# Altium footprint library sdc_prech_pcblib.PcbLib: 13 footprints
Each footprint in its own frame and in the unit in brackets; x right, y up, seen from the top. Pads: shape width x height; smd on the part's side, far side on the other; paste and mask are expansions set on the pad; w line width, h text height; cw(c..) or ccw(c..) is an arc to the next point about the centre after c.
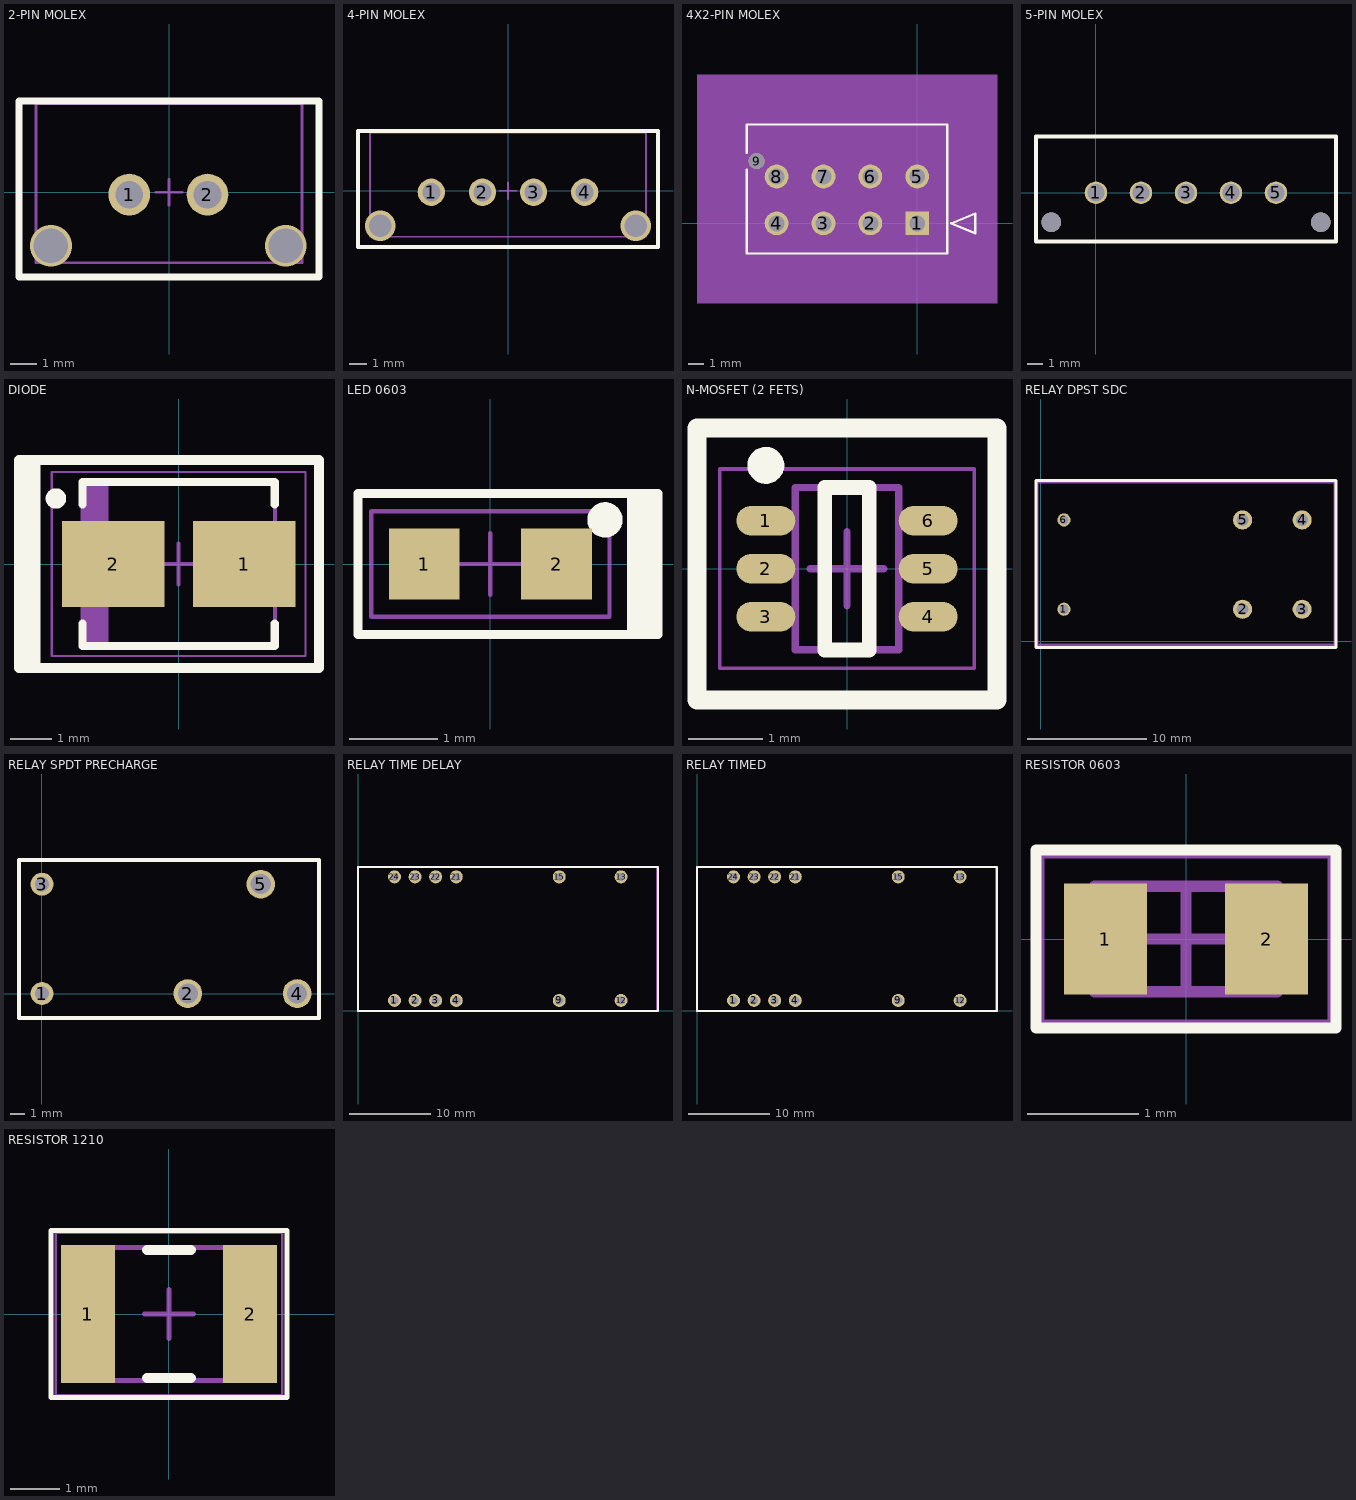
[diagram p0: the footprints below, top view; thin cyan lines are the x and y axes]

## 2-PIN MOLEX [mm]
pads (2):
  round 1.6 hole 1.06: 1(-1.525,-0.09) 2(1.475,-0.09)
via 4.475,-2.05 diameter 1.6 hole 1.32
via -4.525,-2.05 diameter 1.6 hole 1.32
Top Overlay:
  lines w0.254: -5.75,-3.25 -5.75,3.5 5.75,3.5 5.75,-3.25 -5.75,-3.25
Mechanical 15:
  lines w0.1: -0.5,0 0.5,0 ; 0,-0.5 0,0.5 ; -5.1,-2.7 5.1,-2.7 5.1,3.4 -5.1,3.4 -5.1,-2.7
3D body "436500228.stp": height 9.95, standoff -3.13, extent -4.825,-2.47 4.825,3.135

## 4-PIN MOLEX [mm]
pads (4):
  round 1.6 hole 1.06: 1(-4.5,-0.09) 2(-1.5,-0.09) 3(1.5,-0.09) 4(4.5,-0.09)
via -7.5,-2.05 diameter 1.8 hole 1.32
via 7.5,-2.05 diameter 1.8 hole 1.32
Top Overlay:
  lines w0.254: -8.8,-3.3 -8.8,3.5 8.8,3.5 8.8,-3.3 -8.8,-3.3
Mechanical 15:
  lines w0.1: -0.5,0 0.5,0 ; 0,-0.5 0,0.5 ; -8.1,-2.7 8.1,-2.7 8.1,3.4 -8.1,3.4 -8.1,-2.7
3D body "436500428.stp": height 9.95, standoff -3.13, extent -7.825,-2.47 7.825,3.135

## 4X2-PIN MOLEX [mm]
pads (9):
  rect 1.52x1.52 hole 1.016 mask+0.076: 1(0,0)
  round 1.52 hole 1.016 mask+0.076: 2(-3,0) 3(-6,0) 4(-9,0) 5(0,3) 6(-3,3) 7(-6,3) 8(-9,3)
  round 1.02 hole 1.016 mask+0.076: 9(-10.28,3.98)
Top Overlay:
  lines w0.152: -10.92,3.451 -10.92,-1.93 1.93,-1.93 1.93,6.33 -10.92,6.33 -10.92,4.509 ; 2.184,0 3.708,0.635 3.708,-0.635 2.184,0
Mechanical 5:
  region: -14.095,9.505 5.105,9.505 5.105,-5.105 -14.095,-5.105
Mechanical 13:
  lines w0.127: -10.92,-1.93 1.93,-1.93 1.93,6.33 -10.92,6.33 -10.92,-1.93 ; 2.184,0 3.708,0.635 3.708,-0.635 2.184,0
Mechanical 15:
  region: 3.2,7.6 -12.19,7.6 -12.19,-3.2 3.2,-3.2
  lines w0.127: -12.19,-3.2 -12.19,7.6 3.2,7.6 3.2,-3.2 -12.19,-3.2
3D body: height 0.25, standoff 0, extent 0,0 0.254,0.254

## 5-PIN MOLEX [mm]
pads (5):
  round 1.5 hole 1.15: 1(0,0) 2(3,0) 3(6,0) 4(9,0) 5(12,0)
via -3,-1.96 diameter 1.3 hole 1.3
via 15,-1.96 diameter 1.3 hole 1.3
Top Overlay:
  lines w0.254: -4,-3.25 16,-3.25 16,3.75 -4,3.75 -4,-3.25
3D body "436500527.stp": height 10.45, standoff -2.63, extent -3.32,-2.47 15.32,3.135

## DIODE [mm] "Molded Diode, 2-Leads, Body 4.38x3.62mm, IPC Medium Density"
height 2.6
pads (2):
  rect 2.5x2.1 smd: 1(1.6,0) 2(-1.6,0)
Top Overlay:
  circle w0.25: c-3,1.6 r0.125
  rectangle: -3.9,-2.54 -3.5,2.54
  lines w0.2: -2.35,-1.45 -2.35,-2 2.35,-2 2.35,-1.45 ; -2.35,1.45 -2.35,2 2.35,2 2.35,1.45
  lines w0.254: -3.9,2.5 -3.9,2.14 -3.9,-2.54 ; -3.9,-2.54 -3.9,2.54 ; -3.9,-2.54 -3.5,-2.54 ; -3.9,-2.54 -3.9,2.54 ; -3.9,2.54 -3.5,2.54 ; -3.5,-2.54 3.429,-2.54 3.429,2.54 -3.5,2.54 ; -3.5,-2.54 -3.5,2.54
Mechanical 13:
  rectangle: -2.35,-1.97 -1.718,1.97
  lines w0.1: -2.35,-1.97 -2.35,1.97 2.35,1.97 2.35,-1.97 -2.35,-1.97
Mechanical 15:
  lines w0.05: -3.1,-2.25 -3.1,2.25 3.1,2.25 3.1,-2.25 -3.1,-2.25
  lines w0.1: -0.5,0 0.5,0 ; 0,-0.5 0,0.5
3D body: height 2.6, standoff 0, extent -2.35,-1.97 2.35,1.97

## LED 0603 [mm]
pads (2):
  rect 0.8x0.8 smd: 1(-0.75,0) 2(0.75,0)
Top Overlay:
  circle w0.2: c1.3,0.5 r0.1
  rectangle: 1.6,-0.8 1.9,0.8
  lines w0.1: 1.6,-0.8 1.6,0.8 ; -1.5,-0.8 -1.5,0.8 1.9,0.8 1.9,-0.8 -1.5,-0.8
Mechanical 15:
  lines w0.05: -0.35,0 0.35,0 ; 0,-0.35 0,0.35 ; -1.35,-0.6 -1.35,0.6 1.35,0.6 1.35,-0.6 -1.35,-0.6
3D body "User Library-SMD LED 0603.step": height 0.39, standoff 0, extent -0.8,-0.4 0.8,0.4

## N-MOSFET (2 FETS) [mm] "TSOP, 6-Leads, Body 2.00x1.25mm, Pitch 0.65mm, IPC Medium Density"
height 0.1
pads (6):
  oval 0.8x0.4 smd: 1(-1.1,0.65) 2(-1.1,0) 3(-1.1,-0.65) 4(1.1,-0.65) 5(1.1,0) 6(1.1,0.65)
Top Overlay:
  circle w0.25: c-1.1,1.4 r0.125
  lines w0.2: -0.3,-1.1 -0.3,1.1 0.3,1.1 0.3,-1.1 -0.3,-1.1
  lines w0.254: -2.032,-1.778 -2.032,1.905 2.032,1.905 2.032,-1.778 -2.032,-1.778
Mechanical 13:
  lines w0.1: -0.7,-1.1 -0.7,1.1 0.7,1.1 0.7,-1.1 -0.7,-1.1
Mechanical 15:
  lines w0.05: -1.725,-1.35 -1.725,1.35 1.725,1.35 1.725,-1.35 -1.725,-1.35
  lines w0.1: -0.5,0 0.5,0 ; 0,-0.5 0,0.5
3D body "TSOP65P210X10-6N.step": height 1.1, standoff 0, extent -1.05,-1.1 1.05,1.1

## RELAY DPST SDC [mm]
pads (6):
  round 1.1 hole 0.762: 1(1.95,2.7) 6(1.95,10.2)
  round 1.6 hole 1: 2(16.95,2.7) 3(21.95,2.7) 4(21.95,10.2) 5(16.95,10.2)
Top Overlay:
  lines w0.254: -0.4,-0.5 -0.4,13.5 24.8,13.5 24.8,-0.5 -0.4,-0.5
Mechanical 15:
  lines w0.254: -0.3,-0.3 24.7,-0.3 24.7,13.4 -0.3,13.4 -0.3,-0.3
3D body "1891796_osa-ss-224dm3_000.stp": height 24.51, standoff -4.29, extent 0,0 24.4,12.9
3D body: height 0.25, standoff 0, extent 0,0 24.4,12.9

## RELAY SPDT PRECHARGE [mm]
pads (5):
  round 1.6 hole 1: 1(0,0) 3(0,7.62)
  round 2 hole 1.4: 2(10.16,0) 4(17.78,0) 5(15.24,7.62)
Top Overlay:
  lines w0.254: -1.6,-1.7 -1.6,9.3 19.3,9.3 19.3,-1.7 -1.6,-1.7
3D body "G5Q_14.step": height 15.81, standoff -3.79, extent -1.33,-1.34 18.97,8.96

## RELAY TIME DELAY [mm]
pads (12):
  round 1.6 hole 1: 1(4.5,1.3) 2(7.04,1.3) 3(9.58,1.3) 4(12.12,1.3) 9(24.82,1.3) 12(32.44,1.3) 13(32.44,16.54) 15(24.82,16.54) 21(12.12,16.54) 22(9.58,16.54) 23(7.04,16.54) 24(4.5,16.54)
Top Overlay:
  lines w0.254: 0,0 0,17.75 37,17.75 37,0 0,0
Mechanical 15:
  lines w0.254: 0,0 36.9,0 36.9,17.75 0,17.75 0,0
3D body "H3FA-A.STEP": height 20.5, standoff -2.3, extent 0.05,0 36.95,17.75
3D body: height 2.54, standoff -2.54, extent -1272.528,-1272.537 -1267.46,-1267.463

## RELAY TIMED [mm]
pads (12):
  round 1.6 hole 1: 1(4.45,1.3) 2(6.99,1.3) 3(9.53,1.3) 4(12.07,1.3) 9(24.77,1.3) 12(32.39,1.3) 13(32.39,16.54) 15(24.77,16.54) 21(12.07,16.54) 22(9.53,16.54) 23(6.99,16.54) 24(4.45,16.54)
Top Overlay:
  lines w0.254: -0.05,0 36.95,0 36.95,17.75 -0.05,17.75 -0.05,0
Mechanical 15:
  lines w0.254: -0.05,0 -0.05,17.75 36.85,17.75 36.85,0 -0.05,0
3D body "H3FA-A.STEP": height 20.5, standoff -2.3, extent 0,0 36.9,17.75

## RESISTOR 0603 [mm] "Chip Resistor, 2-Leads, Body 1.58x0.85mm, IPC Medium Density"
height 0.5
pads (2):
  rect 0.75x1 smd: 1(-0.725,0) 2(0.725,0)
Top Overlay:
  lines w0.1: -1.35,-0.8 1.35,-0.8 1.35,0.8 -1.35,0.8 -1.35,-0.8
Mechanical 13:
  lines w0.1: -0.825,-0.475 0.825,-0.475 0.825,0.475 -0.825,0.475 -0.825,-0.475
Mechanical 15:
  lines w0.05: -1.3,-0.75 1.3,-0.75 1.3,0.75 -1.3,0.75 -1.3,-0.75
  lines w0.1: -0.475,0 0.475,0 ; 0,-0.475 0,0.475
3D body: height 0.5, standoff 0, extent 0.525,-0.475 0.825,0.475
3D body: height 0.5, standoff 0, extent -0.825,-0.475 -0.525,0.475
3D body: height 0.5, standoff 0, extent -0.525,-0.475 0.525,0.475

## RESISTOR 1210 [mm] "Chip Resistor, 2-Leads, Body 3.20x2.50mm, IPC Medium Density"
height 0.6
pads (2):
  rect 1.1x2.8 smd: 1(-1.65,0) 2(1.65,0)
Top Overlay:
  lines w0.1: -2.4,-1.7 2.4,-1.7 2.4,1.7 -2.4,1.7 -2.4,-1.7
  lines w0.2: -0.45,-1.3 0.45,-1.3 ; -0.45,1.3 0.45,1.3
Mechanical 13:
  lines w0.1: -1.7,-1.35 -1.7,1.35 1.7,1.35 1.7,-1.35 -1.7,-1.35
Mechanical 15:
  lines w0.05: -2.3,-1.65 -2.3,1.65 2.3,1.65 2.3,-1.65 -2.3,-1.65
  lines w0.1: -0.5,0 0.5,0 ; 0,-0.5 0,0.5
3D body: height 0.6, standoff 0, extent -1.25,-1.35 1.25,1.35
3D body: height 0.6, standoff 0, extent -1.7,-1.35 -1.25,1.35
3D body: height 0.6, standoff 0, extent 1.25,-1.35 1.7,1.35